# Altium footprint library SparkFun-Capacitors.PCBLIB: 87 footprints (part 6 of 6)
Each footprint in its own frame and in the unit in brackets; x right, y up, seen from the top. Pads: shape width x height; smd on the part's side, far side on the other; paste and mask are expansions set on the pad; w line width, h text height; cw(c..) or ccw(c..) is an arc to the next point about the centre after c.
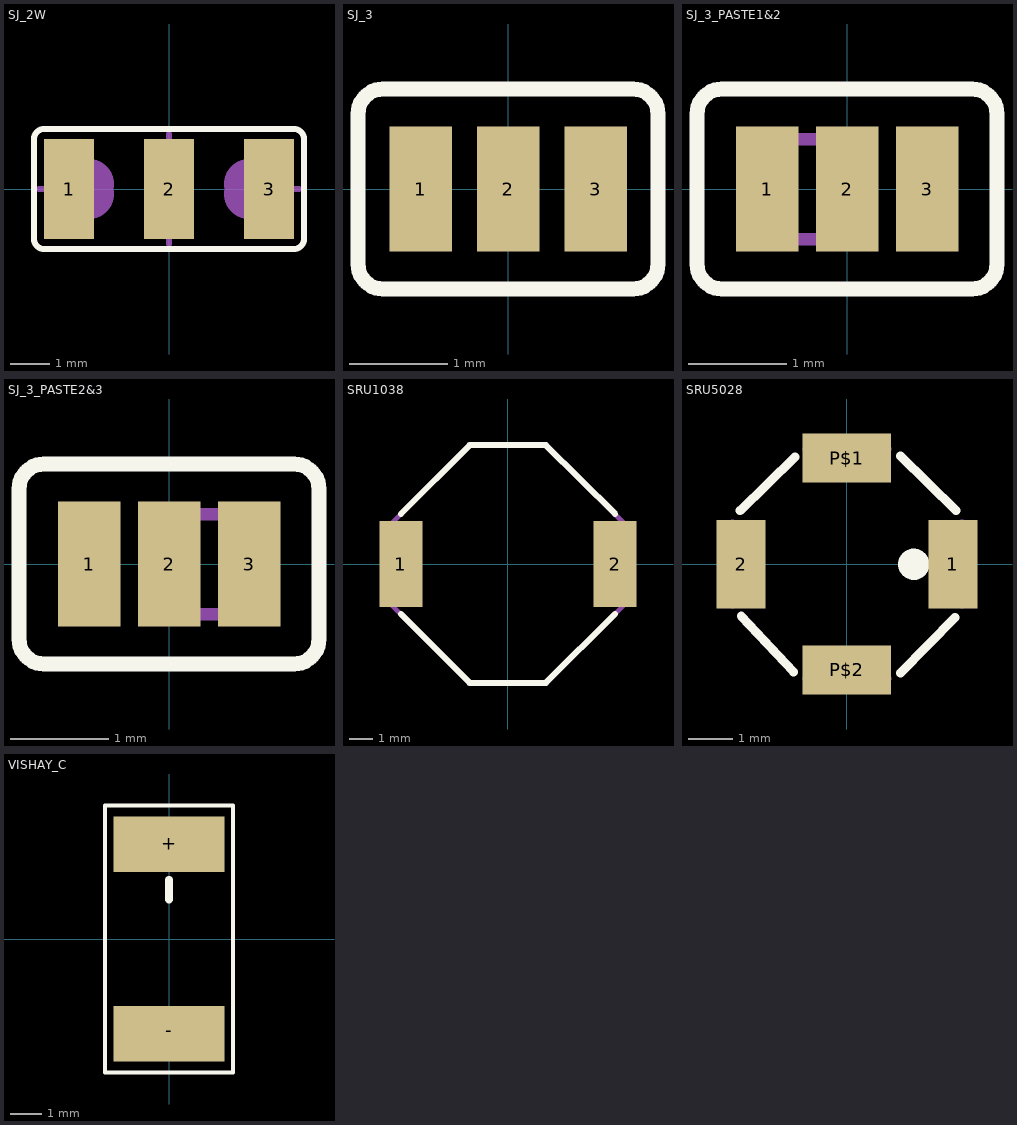
[diagram p5: the footprints below, top view; thin cyan lines are the x and y axes]

## SJ_2W [mil]
pads (3):
  rect 50x100 smd: 1(-100,0) 2(0,0) 3(100,0)
Top Overlay:
  lines w6: -135,-50 ccw(c-125,-50) -125,-60 125,-60 ccw(c125,-50) 135,-50 135,50 ccw(c125,50) 125,60 -125,60 ccw(c-125,50) -135,50 -135,-50
Mechanical 2:
  text ">NAME" at -135,70 h77.5
Mechanical 4:
  text ">VALUE" at -3.94,0 h1.55
Mechanical 16:
  rectangle: -20,-30 20,30
  lines w6: -130,0 -110,0 ; 0,-55 0,-30 ; 0,30 0,55 ; 110,0 130,0
  lines w50: -80,-5 cw(c-80,0) -80,5 ; 80,-5 ccw(c80,0) 80,5

## SJ_3 [mil]
pads (3):
  rect 25x50 smd: 1(-35,0) 2(0,0) 3(35,0)
Top Overlay:
  lines w6: -60,-30 ccw(c-50,-30) -50,-40 50,-40 ccw(c50,-30) 60,-30 60,30 ccw(c50,30) 50,40 -50,40 ccw(c-50,30) -60,30 -60,-30
Mechanical 2:
  text ">NAME" at -50,50 h24.8
Mechanical 4:
  text ">VALUE" at -3.94,0 h1.55
  text ">VALUE" at -50,-75 h24.8

## SJ_3_PASTE1&2 [mil]
pads (3):
  rect 25x50 smd: 1(-32,0) 2(0,0) 3(32,0)
Top Overlay:
  lines w6: -60,-30 ccw(c-50,-30) -50,-40 50,-40 ccw(c50,-30) 60,-30 60,30 ccw(c50,30) 50,40 -50,40 ccw(c-50,30) -60,30 -60,-30
Top Paste:
  rectangle: -57,-40 11,37
Mechanical 2:
  text ">NAME" at -50,50 h24.8
Mechanical 4:
  text ">VALUE" at -3.94,0 h1.55
  text ">VALUE" at -50,-75 h24.8
Mechanical 16:
  lines w5: -40,-20 -40,20 8,20 8,-20 -40,-20
  text "PASTE" at -30,-17.5 h15.5

## SJ_3_PASTE2&3 [mil]
pads (3):
  rect 25x50 smd: 1(-32,0) 2(0,0) 3(32,0)
Top Overlay:
  lines w6: -60,-30 ccw(c-50,-30) -50,-40 50,-40 ccw(c50,-30) 60,-30 60,30 ccw(c50,30) 50,40 -50,40 ccw(c-50,30) -60,30 -60,-30
Top Paste:
  rectangle: -11,-40 56,39
Mechanical 2:
  text ">NAME" at -50,50 h24.8
Mechanical 4:
  text ">VALUE" at -3.94,0 h1.55
  text ">VALUE" at -50,-75 h24.8
Mechanical 16:
  lines w5: -7.5,-20 -7.5,20 40,20 40,-20 -7.5,-20
  text "PASTE" at 3,-17.5 h15.5

## SRU1038 [mil]
pads (2):
  rect 71x142 smd: 1(-177.17,0) 2(178,0)
Top Overlay:
  lines w10: -177.17,-82.68 -62.99,-196.85 63,-196.85 178,-82.68 ; -177.17,83 -62.99,197 63,197 178,83
Mechanical 2:
  text ">Name" at -100,100 h62
Mechanical 4:
  text ">Value" at -100,-130 h62
Mechanical 16:
  lines w8: -196.85,-62.99 -196.85,63 -62.99,197 63,197 197,63 197,-62.99 63,-196.85 -62.99,-196.85 -196.85,-62.99

## SRU5028 [mil]
pads (4):
  rect 44x79 smd: 1(95,0) 2(-94.49,0)
  rect 79x44 smd: P$1(0,95) P$2(0,-94.49)
Top Overlay:
  circle w16: c60,0 r6
  lines w8: -95.36,48 -46.43,96 ; -94.36,-46.43 -47.43,-96.36 ; 48,-97.36 97,-47.43 ; 48,97 98,48
Mechanical 2:
  text ">NAME" at -100,125 h24.8
Mechanical 4:
  text ">VALUE" at -100,-150 h24.8
Mechanical 16:
  lines w8: -102.36,-35.43 -102.36,36 ; -35.43,-102.36 36,-102.36 ; -35.43,103 36,103 ; 103,-35.43 103,36

## VISHAY_C [mil]
pads (2):
  rect 140x70 smd: +(0,120) -(0,-120)
Top Overlay:
  lines w5: -81,-169 -81,169 81,169 81,-169 -81,-169
  lines w10: 0,50 0,75
Mechanical 2:
  text ">NAME" at -75,175 h24.8
Mechanical 4:
  text ">VALUE" at -75,-200 h24.8